# Altium schematic symbol library condesator2.SchLib: 1 symbol
Pins are listed as number, name and electrical type; pins without a type are passive.

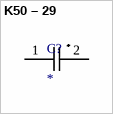
[diagram p0: symbol K50 – 29]

## K50 – 29
designator C?
footprint PCBComponent_1
pins: 1, 2